# Altium schematic symbol library STM32G431R8I6.SchLib: 1 symbol
Pins are listed as number, name and electrical type; pins without a type are passive.

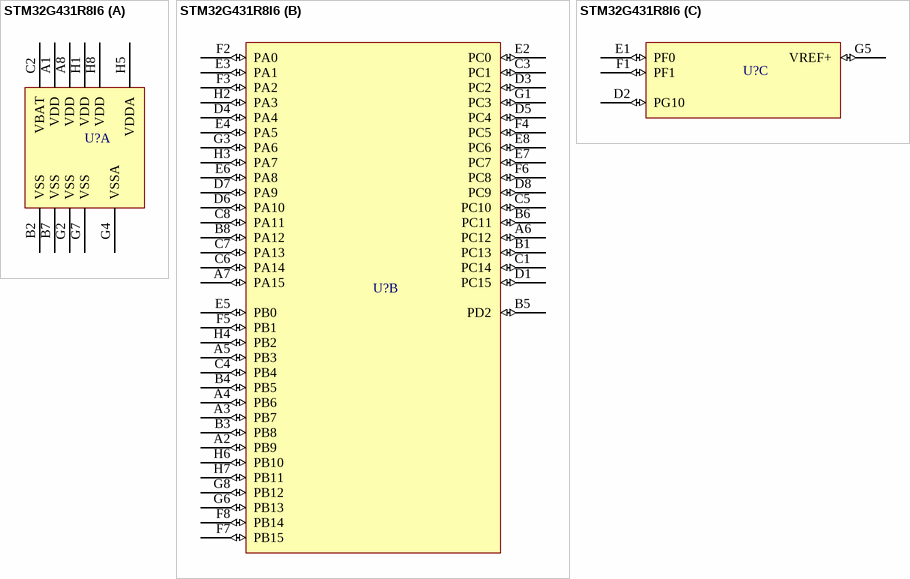
[diagram p0: symbol STM32G431R8I6]

## STM32G431R8I6
designator U?  (value not drawn)
Mainstream Arm Cortex-M4 MCU 170 MHz with 64 Kbytes of Flash memory, Math Accelerator, Medium Analog level integration
part A pins: A1 VDD (power), A8 VDD (power), B2 VSS (power), B7 VSS (power), C2 VBAT (power), G2 VSS (power), G4 VSSA (power), G7 VSS (power), H1 VDD (power), H5 VDDA (power), H8 VDD (power)
part B pins: A2 PB9 (io), A3 PB7 (io), A4 PB6 (io), A5 PB3 (io), A6 PC12 (io), A7 PA15 (io), B1 PC13 (io), B3 PB8 (io), B4 PB5 (io), B5 PD2 (io), B6 PC11 (io), B8 PA12 (io), C1 PC14 (io), C3 PC1 (io), C4 PB4 (io), C5 PC10 (io), C6 PA14 (io), C7 PA13 (io), C8 PA11 (io), D1 PC15 (io), D3 PC2 (io), D4 PA4 (io), D5 PC4 (io), D6 PA10 (io), D7 PA9 (io), D8 PC9 (io), E2 PC0 (io), E3 PA1 (io), E4 PA5 (io), E5 PB0 (io), E6 PA8 (io), E7 PC7 (io), E8 PC6 (io), F2 PA0 (io), F3 PA2 (io), F4 PC5 (io), F5 PB1 (io), F6 PC8 (io), F7 PB15 (io), F8 PB14 (io), G1 PC3 (io), G3 PA6 (io), G6 PB13 (io), G8 PB12 (io), H2 PA3 (io), H3 PA7 (io), H4 PB2 (io), H6 PB10 (io), H7 PB11 (io)
part C pins: D2 PG10 (io), E1 PF0 (io), F1 PF1 (io), G5 VREF+ (io)